# Altium footprint library SAMTEC_IPL1-102-01-X-S-K.PcbLib: 1 footprints
Each footprint in its own frame and in the unit in brackets; x right, y up, seen from the top. Pads: shape width x height; smd on the part's side, far side on the other; paste and mask are expansions set on the pad; w line width, h text height; cw(c..) or ccw(c..) is an arc to the next point about the centre after c.
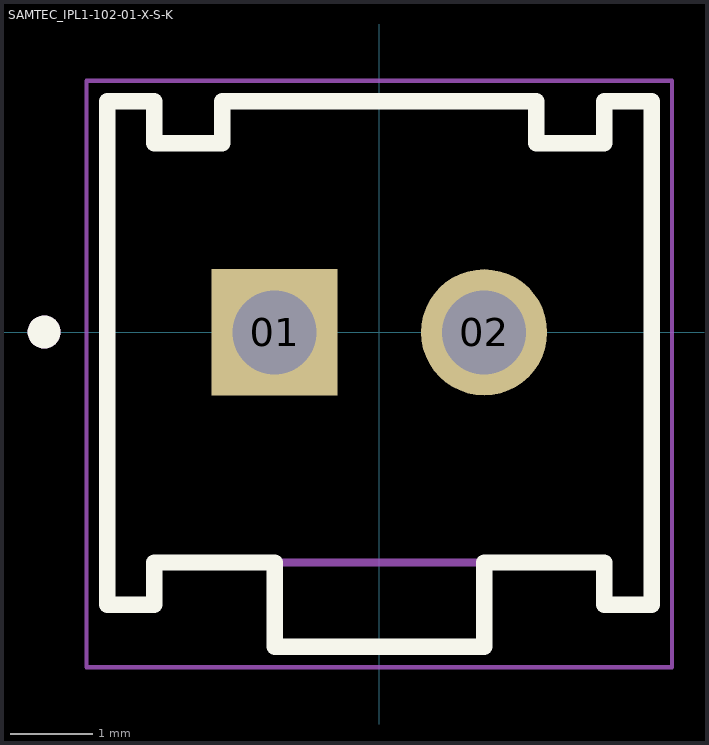
[diagram p0: the footprint, top view; thin cyan lines are the x and y axes]

## SAMTEC_IPL1-102-01-X-S-K [mm]
pads (2):
  rect 1.53x1.53 hole 1.02: 01(-1.27,0)
  round 1.53 hole 1.02: 02(1.27,0)
Top Overlay:
  circle w0.2: c-4.064,0.004 r0.1
  lines w0.2: -3.3,-3.3 -3.3,2.8 -2.729,2.8 -2.729,2.29 -1.905,2.29 -1.905,2.8 1.905,2.8 1.905,2.29 2.729,2.29 2.729,2.8 3.3,2.8 3.3,-3.3 2.729,-3.3 2.729,-2.79 1.27,-2.79 1.27,-3.81 -1.27,-3.81 -1.27,-2.79 -2.729,-2.79 -2.729,-3.3 -3.3,-3.3
Mechanical 13:
  circle w0.2: c-4.064,0.004 r0.1
  lines w0.1: -1.27,-2.79 -2.729,-2.79 -2.729,-3.3 -3.3,-3.3 -3.3,2.8 -2.729,2.8 -2.729,2.29 -1.905,2.29 -1.905,2.8 1.905,2.8 1.905,2.29 2.729,2.29 2.729,2.8 3.3,2.8 3.3,-3.3 2.729,-3.3 2.729,-2.79 1.27,-2.79 ; -1.27,-2.79 -1.27,-3.81 1.27,-3.81 1.27,-2.79 ; -1.27,-2.79 1.27,-2.79
Mechanical 15:
  lines w0.05: -3.55,-4.06 3.55,-4.06 3.55,3.05 -3.55,3.05 -3.55,-4.06